# Altium schematic symbol library HW_ADHERENT_SYSCTRL_R1_L2.SCHLIB: 1987 symbols (part 17 of 38)
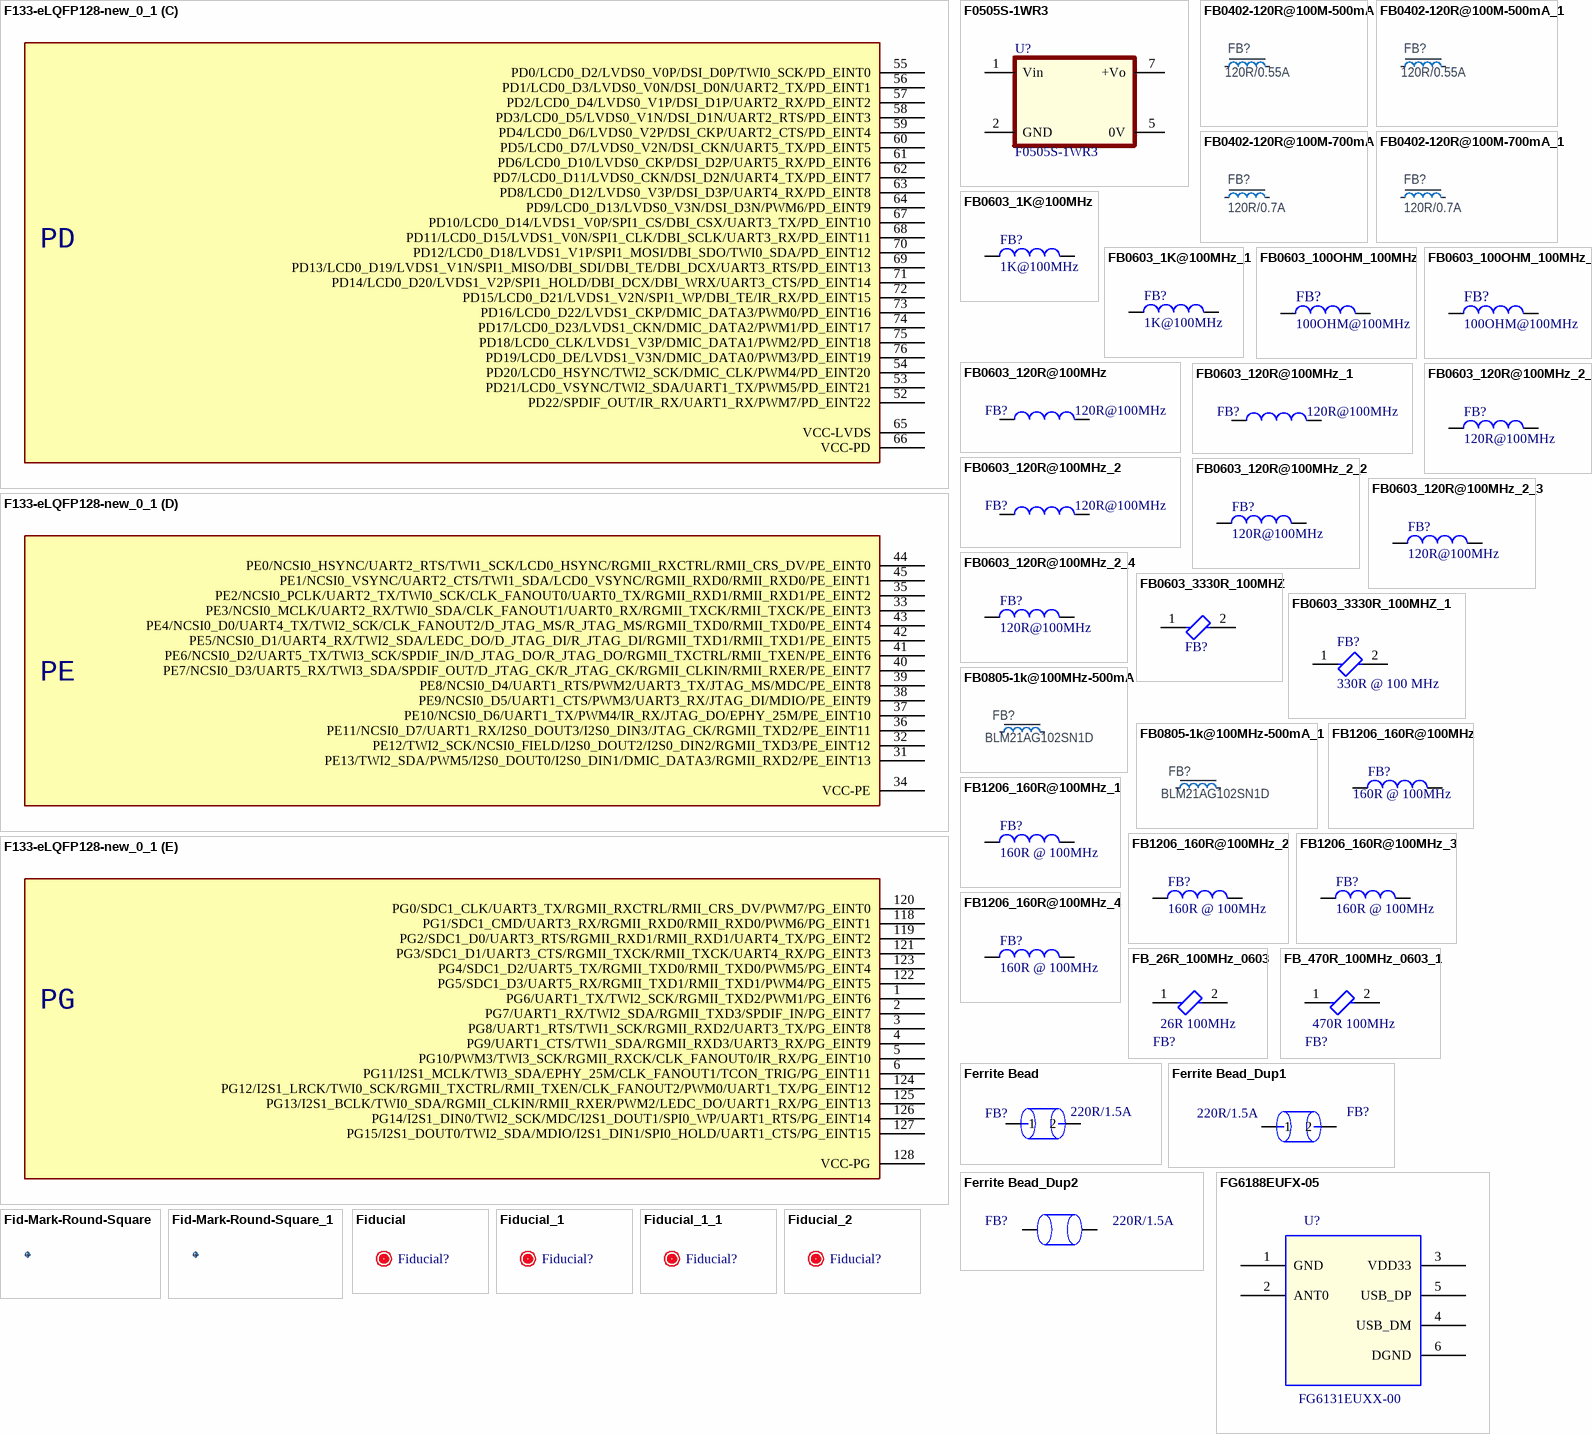
[diagram p78: symbols F133-eLQFP128-new_0_1 to Fiducial_2]

## FB0603_100OHM_100MHz
designator FB?, comment 100OHM@100MHz
100 Ohms @ 100 MHz 1 Power Line Ferrite Bead 0603 (1608 Metric) 2A 40mOhm; Manufacturer: TDK; Manufacturer Part Number: MPZ1608Y101BTA00; Tolerance: 25%; Impedance: 100R; DC Resistance (DCR): 40mR; ComponentLink1URL: https://chn-vm-apps.microchip.com/mchprepo/parts/Datasheets/beads_commercial_power_mpz_en.pdf; ComponentLink1Description: Datasheet; Supplier 1: Digi-Key; Supplier Part Number 1: 445-2984-1-ND; RoHS: Yes; Category: Ferrite Beads and Chips; Stock 1: 551; Pricing 1: 1=0,10000, 10=0,07200, 25=0,06480, 50=0,05840, 100=0,04290, 250=0,03120, 500=0,02860, 1000=0,02470 (USD); Mount: Surface Mount; Case/Package: 0603; Case Code (Metric): 1608; Case Code (Imperial): 0603; Core Material: Ferrite; Packaging: Tape and Reel; Package Quantity: 4000; Max DC Current: 2A; Current Rating: 2A; Series: MPZ; Length: 0.063inch; Width: 0.031inch; Height: 0.037inch; RoHS Compliant: Yes; REACH SVHC: No SVHC; ComponentLink2URL: https://datasheet.ciiva.com/46634/beads-commercial-power-mpz-en-46634677.pdf?src-supplier=Digi-Key; ComponentLink2Description: https://datasheet.ciiva.com/46634/beads-commercial-power-mpz-en-46634677.pdf?src-supplier=Digi-Key; ComponentLink3URL: https://datasheet.ciiva.com/48682/beads-commercial-power-mpz-en-48682501.pdf?src-supplier=Avnet; ComponentLink3Description: https://datasheet.ciiva.com/48682/beads-commercial-power-mpz-en-48682501.pdf?src-supplier=Avnet; ComponentLink4URL: https://datasheet.ciiva.com/46634/beads-commercial-power-mpz-en-46634684.pdf?src-supplier=Digi-Key; ComponentLink4Description: https://datasheet.ciiva.com/46634/beads-commercial-power-mpz-en-46634684.pdf?src-supplier=Digi-Key; ComponentLink5URL: https://datasheet.ciiva.com/46634/beads-commercial-power-mpz-en-46634621.pdf?src-supplier=Digi-Key; ComponentLink5Description: https://datasheet.ciiva.com/46634/beads-commercial-power-mpz-en-46634621.pdf?src-supplier=Digi-Key; Parameter 1: *; LCSC Manufacturer Part Number: MPZ1608Y101BTA00; LCSC Part Number: C501996
footprint FB 0603(1608)
pins: 1, 2
2 alternate drawings of the same symbol

## FB0603_100OHM_100MHz_1
designator FB?, comment 100OHM@100MHz
100 Ohms @ 100 MHz 1 Power Line Ferrite Bead 0603 (1608 Metric) 2A 40mOhm; Manufacturer: TDK; Manufacturer Part Number: MPZ1608Y101BTA00; Tolerance: 25%; Impedance: 100R; DC Resistance (DCR): 40mR; ComponentLink1URL: https://chn-vm-apps.microchip.com/mchprepo/parts/Datasheets/beads_commercial_power_mpz_en.pdf; ComponentLink1Description: Datasheet; Supplier 1: Digi-Key; Supplier Part Number 1: 445-2984-1-ND; RoHS: Yes; Category: Ferrite Beads and Chips; Stock 1: 551; Pricing 1: 1=0,10000, 10=0,07200, 25=0,06480, 50=0,05840, 100=0,04290, 250=0,03120, 500=0,02860, 1000=0,02470 (USD); Mount: Surface Mount; Case/Package: 0603; Case Code (Metric): 1608; Case Code (Imperial): 0603; Core Material: Ferrite; Packaging: Tape and Reel; Package Quantity: 4000; Max DC Current: 2A; Current Rating: 2A; Series: MPZ; Length: 0.063inch; Width: 0.031inch; Height: 0.037inch; RoHS Compliant: Yes; REACH SVHC: No SVHC; ComponentLink2URL: https://datasheet.ciiva.com/46634/beads-commercial-power-mpz-en-46634677.pdf?src-supplier=Digi-Key; ComponentLink2Description: https://datasheet.ciiva.com/46634/beads-commercial-power-mpz-en-46634677.pdf?src-supplier=Digi-Key; ComponentLink3URL: https://datasheet.ciiva.com/48682/beads-commercial-power-mpz-en-48682501.pdf?src-supplier=Avnet; ComponentLink3Description: https://datasheet.ciiva.com/48682/beads-commercial-power-mpz-en-48682501.pdf?src-supplier=Avnet; ComponentLink4URL: https://datasheet.ciiva.com/46634/beads-commercial-power-mpz-en-46634684.pdf?src-supplier=Digi-Key; ComponentLink4Description: https://datasheet.ciiva.com/46634/beads-commercial-power-mpz-en-46634684.pdf?src-supplier=Digi-Key; ComponentLink5URL: https://datasheet.ciiva.com/46634/beads-commercial-power-mpz-en-46634621.pdf?src-supplier=Digi-Key; ComponentLink5Description: https://datasheet.ciiva.com/46634/beads-commercial-power-mpz-en-46634621.pdf?src-supplier=Digi-Key; Parameter 1: *; LCSC Manufacturer Part Number: MPZ1608Y101BTA00; LCSC Part Number: C501996
footprint FB 0603(1608)
pins: 1, 2
2 alternate drawings of the same symbol

## FB0603_120R@100MHz
designator FB?, comment value 120R@100MHz  (hidden comment: FERRITE BEAD 120 OHM 0603 1LN)
120 Ohms @ 100 MHz 1 Power Line Ferrite Bead 0603 (1608 Metric) 3A 30mOhm; Manufacturer Part Number: BLM18KG121TH1D; Order Code: Digi:490-13261-2-ND; LCSC Manufacturer Part Number: BLM18KG121TH1D; LCSC Part Number: C437404
footprint FB0603
pins: 1, 2

## FB0603_120R@100MHz_1
designator FB?, comment value 120R@100MHz  (hidden comment: FERRITE BEAD 120 OHM 0603 1LN)
120 Ohms @ 100 MHz 1 Power Line Ferrite Bead 0603 (1608 Metric) 3A 30mOhm; Manufacturer Part Number: BLM18KG121TH1D; Order Code: Digi:490-13261-2-ND; LCSC Manufacturer Part Number: BLM18KG121TH1D; LCSC Part Number: C437404
footprint FB 0603(1608)
pins: 1, 2

## FB0603_120R@100MHz_2
designator FB?, comment value 120R@100MHz  (hidden comment: FERRITE BEAD 120 OHM 0603 1LN)
120 Ohms @ 100 MHz 1 Power Line Ferrite Bead 0603 (1608 Metric) 3A 30mOhm; Manufacturer Part Number: BLM18KG121TH1D; Order Code: Digi:490-13261-2-ND; LCSC Manufacturer Part Number: BLM18KG121TH1D; LCSC Part Number: C437404
footprint FB 0603(1608)
pins: 1, 2

## FB0603_120R@100MHz_2_1
designator FB?, comment value 120R@100MHz  (hidden comment: FERRITE BEAD 120 OHM 0603 1LN)
120 Ohms @ 100 MHz 1 Power Line Ferrite Bead 0603 (1608 Metric) 3A 30mOhm; Manufacturer Part Number: BLM18KG121TH1D; Order Code: Digi:490-13261-2-ND; LCSC Manufacturer Part Number: BLM18KG121TH1D; LCSC Part Number: C437404
footprint FB0603
pins: 1, 2

## FB0603_120R@100MHz_2_2
designator FB?, comment value 120R@100MHz  (hidden comment: FERRITE BEAD 120 OHM 0603 1LN)
120 Ohms @ 100 MHz 1 Power Line Ferrite Bead 0603 (1608 Metric) 3A 30mOhm; Manufacturer Part Number: BLM18KG121TH1D; Order Code: Digi:490-13261-2-ND; LCSC Manufacturer Part Number: BLM18KG121TH1D; LCSC Part Number: C437404
footprint FB0603
pins: 1, 2

## FB0603_120R@100MHz_2_3
designator FB?, comment value 120R@100MHz  (hidden comment: FERRITE BEAD 120 OHM 0603 1LN)
120 Ohms @ 100 MHz 1 Power Line Ferrite Bead 0603 (1608 Metric) 3A 30mOhm; Manufacturer Part Number: BLM18KG121TH1D; Order Code: Digi:490-13261-2-ND; LCSC Manufacturer Part Number: BLM18KG121TH1D; LCSC Part Number: C437404
footprint FB0603
pins: 1, 2

## FB0603_120R@100MHz_2_4
designator FB?, comment value 120R@100MHz  (hidden comment: FERRITE BEAD 120 OHM 0603 1LN)
120 Ohms @ 100 MHz 1 Power Line Ferrite Bead 0603 (1608 Metric) 3A 30mOhm; Manufacturer Part Number: BLM18KG121TH1D; Order Code: Digi:490-13261-2-ND; LCSC Manufacturer Part Number: BLM18KG121TH1D; LCSC Part Number: C437404
footprint FB0603
pins: 1, 2

## FB0603_3330R_100MHZ
designator FB?  (value not drawn)
330 Ohms @ 100 MHz 1 Power Line Ferrite Bead 0603 (1608 Metric) 1.5A 70mOhm; Manufacturer Part Number: BLM18SG331TN1D; Manufacturer Name: Murata Electronics; Impedance @ Frequency: 330 Ohms @ 100 MHz; Current Rating (Max): 1.5A
footprint FB_0603
pins: 1, 2

## FB0603_3330R_100MHZ_1
designator FB?, comment 330R @ 100 MHz
330 Ohms @ 100 MHz 1 Power Line Ferrite Bead 0603 (1608 Metric) 1.5A 70mOhm; Manufacturer Part Number: BLM18SG331TN1D; Manufacturer Name: Murata Electronics; Impedance @ Frequency: 330 Ohms @ 100 MHz; Current Rating (Max): 1.5A
footprint FB_0603
pins: 1, 2

## FB0805-1k@100MHz-500mA
designator FB?, comment BLM21AG102SN1D
Ferrite Bead, 1k Ohm @ 100MHz, 500mA, 280 mOhm Max; Part Number: FB0805-1k@100MHz-500mA; Manufacturer: Murata; Part number NEMS: 100300399; Component Status: Active; Pad Count: 2; Note: Inductor Type Chip Ferrite Bead; Artikkelnr Noca: N.A.; PartId: 100300399; Component Class: Inductors; Author: rsk; Manufacturer Part Number: BLM21AG102SN1D; ComponentLink1URL: https://www.murata.com/en-us/products/en-us/products/productdata/8796738977822/ENFA0005.pdf; ComponentLink1Description: Datasheet; ComponentLink2URL: https://www.digikey.no/product-detail/en/murata-electronics/BLM21AG102SN1D/490-1041-1-ND/574404; ComponentLink2Description: Supplier link; HelpURL: https://www.murata.com/en-us/products/productdetail?partno=BLM21AG102SN1%23; Footprint Doc: 0805; LatestRevisionDate: 2024-05-09; Published: 2020-05-13; Value: BLM21AG102SN1D; Supplier 1: Digi-Key; Supplier Part Number 1: 490-1041-1-ND; Supplier 2: Mouser; Supplier Part Number 2: 81-BLM21AG102SN1; Part number IPS: N.A.; Part number Norautron: N.A.
footprint INDC2012X11L
pins: 1, 2

## FB0805-1k@100MHz-500mA_1
designator FB?, comment BLM21AG102SN1D
Ferrite Bead, 1k Ohm @ 100MHz, 500mA, 280 mOhm Max; Part Number: FB0805-1k@100MHz-500mA; Manufacturer: Murata; Part number NEMS: 100300399; Component Status: Active; Pad Count: 2; Note: Inductor Type Chip Ferrite Bead; Artikkelnr Noca: N.A.; PartId: 100300399; Component Class: Inductors; Author: rsk; Manufacturer Part Number: BLM21AG102SN1D; ComponentLink1URL: https://www.murata.com/en-us/products/en-us/products/productdata/8796738977822/ENFA0005.pdf; ComponentLink1Description: Datasheet; ComponentLink2URL: https://www.digikey.no/product-detail/en/murata-electronics/BLM21AG102SN1D/490-1041-1-ND/574404; ComponentLink2Description: Supplier link; HelpURL: https://www.murata.com/en-us/products/productdetail?partno=BLM21AG102SN1%23; Footprint Doc: 0805; LatestRevisionDate: 2024-05-09; Published: 2020-05-13; Value: BLM21AG102SN1D; Supplier 1: Digi-Key; Supplier Part Number 1: 490-1041-1-ND; Supplier 2: Mouser; Supplier Part Number 2: 81-BLM21AG102SN1; Part number IPS: N.A.; Part number Norautron: N.A.
footprint INDC2012X11L
pins: 1, 2

## FB1206_160R@100MHz
designator FB?, comment 160R @ 100MHz
FERRITE BEAD 160 OHM 1206 1LN; Manufacturer Part Number: HI1206T161R-10; Order Code: DIGI : 240-2411-1-ND; Value: 160R @ 100MHz
footprint FB1210
pins: 1, 2

## FB1206_160R@100MHz_1
designator FB?, comment 160R @ 100MHz
FERRITE BEAD 160 OHM 1206 1LN; P/N: HI1206T161R-10; Order Code: Win Source : 103255-HI1206T161R-10; Value: 160R @ 100MHz
footprint FB1210 (0.126" L x 0.098" W (3.20mm x 2.50mm))
footprint BEADC3216X180N
pins: 1, 2

## FB1206_160R@100MHz_2
designator FB?, comment 160R @ 100MHz
FERRITE BEAD 160 OHM 1206 1LN; P/N: HI1206T161R-10; Order Code: Win Source : 103255-HI1206T161R-10; Value: 160R @ 100MHz
footprint FB1210 (0.126" L x 0.098" W (3.20mm x 2.50mm))
footprint BEADC3216X180N
pins: 1, 2

## FB1206_160R@100MHz_3
designator FB?, comment 160R @ 100MHz
FERRITE BEAD 160 OHM 1206 1LN; P/N: HI1206T161R-10; Order Code: Win Source : 103255-HI1206T161R-10; Value: 160R @ 100MHz
footprint FB1210 (0.126" L x 0.098" W (3.20mm x 2.50mm))
footprint BEADC3216X180N
pins: 1, 2

## FB1206_160R@100MHz_4
designator FB?, comment 160R @ 100MHz
FERRITE BEAD 160 OHM 1206 1LN; P/N: HI1206T161R-10; Order Code: Win Source : 103255-HI1206T161R-10; Value: 160R @ 100MHz
footprint FB1210 (0.126" L x 0.098" W (3.20mm x 2.50mm))
footprint BEADC3216X180N
pins: 1, 2

## FB_26R_100MHz_0603
designator FB?, comment value 26R 100MHz  (hidden comment: FERRITE BEAD 26 OHM 0603 1LN)
26 Ohms @ 100 MHz 1 Power Line Ferrite Bead 0603 (1608 Metric) 6A 7mOhm; Manufacturer Part Number: BLM18KG260TN1D; Order Code: DIGI: 490-5252-2-ND
footprint Murata_BLM18-0_15-t0_6-d3_3_IPC_A
footprint Murata_BLM18-0_15-t0_6-d3_3_IPC_B
footprint Murata_BLM18-0_15-t0_6-d3_3_IPC_C
pins: 1, 2

## FB_470R_100MHz_0603_1
designator FB?, comment value 470R 100MHz  (hidden comment: FERRITE BEAD 470 OHM 0603 1LN)
470 Ohms @ 100 MHz 1 Power Line Ferrite Bead 0603 (1608 Metric) 1.5A 130mOhm; Manufacturer Part Number: BLM18KG471SH1D; Order Code: DIGI: 490-5252-2-ND
footprint Murata_BLM18-0_15-t0_6-d3_3_IPC_A
footprint Murata_BLM18-0_15-t0_6-d3_3_IPC_B
footprint Murata_BLM18-0_15-t0_6-d3_3_IPC_C
pins: 1, 2

## Ferrite Bead
designator FB?, comment 220R/1.5A
Ferrite Bead,220R@100Mhz,1.5A,+/-25%,SMD,0603,Fenghua; Manufacturer P/N: CBM160808U221T; Myir P/N: 20601.80007; Reserve Value: 220R; PCB Footprint: FB0603; Part Type: Ferrite Bead; Manufacturer: Fenghua; Datasheet: CBM160808U221T.pdf
footprint FB0603
pins: 1, 2

## Ferrite Bead_Dup1
designator FB?, comment 220R/1.5A
Ferrite Bead,220R@100Mhz,1.5A,+/-25%,SMD,0603,Fenghua; Manufacturer P/N: CBM160808U221T; Myir P/N: 20601.80007; Reserve Value: 220R; PCB Footprint: FB0603; Part Type: Ferrite Bead; Manufacturer: Fenghua; Datasheet: CBM160808U221T.pdf
footprint FB0603
pins: 1, 2

## Ferrite Bead_Dup2
designator FB?, comment 220R/1.5A
Ferrite Bead,220R@100Mhz,1.5A,+/-25%,SMD,0603,Fenghua; Manufacturer P/N: CBM160808U221T; Reserve Value: 220R; Myir P/N: 20601.80007; PCB Footprint: FB0603; Datasheet: CBM160808U221T.pdf; Manufacturer: Fenghua; Part Type: Ferrite Bead
footprint FB0603
pins: 1, 2

## FG6188EUFX-05
designator U?, comment FG6131EUXX-00
USB WIFI module,Size 12.2*13*0.6mm,SMD,0¡ãC to 70¡ãC,Fn-link; PCB Footprint: modile-FG6188EUFX-05; Myir P/N: 20201.00010; Reserve Value: FG6188EUFX-05; Part Type: WIFI Module; Manufacturer: Fn-link; Manufacturer P/N: FG6131EUXX-00; Datasheet: FG6131EUXX-00.pdf
footprint modile-FG6188EUFX-05
pins: 1 GND (power), 2 ANT0, 3 VDD33 (power), 4 USB_DM, 5 USB_DP, 6 DGND (power)

## Fid-Mark-Round-Square
designator Fid?, comment Fiducial mark  (value not drawn)
Part Number: Fid-Mark-Round-Square; Manufacturer: N.A.; Part number NEMS: 100500075; Value: N.A.; Pad Count: 1; Component Status: Active; System: Connector; Manufacturer Part Number: N.A.; LatestRevisionDate: 2017-01-30; Published: 2009-12-12; Note: N.A.; Artikkelnr Noca: N.A.; Footprint Doc: Fiducial; Part number IPS: N.A.; ComponentLink1URL: N.A.; ComponentLink1Description: Datasheet; ComponentLink2URL: N.A.; ComponentLink2Description: Supplier link; HelpURL: N.A.; Supplier 1: N.A.; Supplier Part Number 1: N.A.; Supplier 2: N.A.; Supplier Part Number 2: N.A.; Author: rsk; Component Class: Connectors; PartId: 100500075; Part number Norautron: N.A.
footprint Fiducial_Round-Square

## Fid-Mark-Round-Square_1
designator Fid?, comment Fiducial mark  (value not drawn)
Part Number: Fid-Mark-Round-Square; Manufacturer: N.A.; Part number NEMS: 100500075; Value: N.A.; Pad Count: 1; Component Status: Active; System: Connector; Manufacturer Part Number: N.A.; LatestRevisionDate: 2017-01-30; Published: 2009-12-12; Note: N.A.; Artikkelnr Noca: N.A.; Footprint Doc: Fiducial; Part number IPS: N.A.; ComponentLink1URL: N.A.; ComponentLink1Description: Datasheet; ComponentLink2URL: N.A.; ComponentLink2Description: Supplier link; HelpURL: N.A.; Supplier 1: N.A.; Supplier Part Number 1: N.A.; Supplier 2: N.A.; Supplier Part Number 2: N.A.; Author: rsk; Component Class: Connectors; PartId: 100500075; Part number Norautron: N.A.
footprint Fiducial_Round-Square

## Fiducial
designator Fiducial?  (value not drawn)
footprint FIDUCIAL_40_80

## Fiducial_1
designator Fiducial?  (value not drawn)
footprint FIDUCIAL_40_80

## Fiducial_1_1
designator Fiducial?  (value not drawn)
footprint FIDUCIAL_40_80

## Fiducial_2
designator Fiducial?  (value not drawn)
footprint FIDUCIAL_40_80

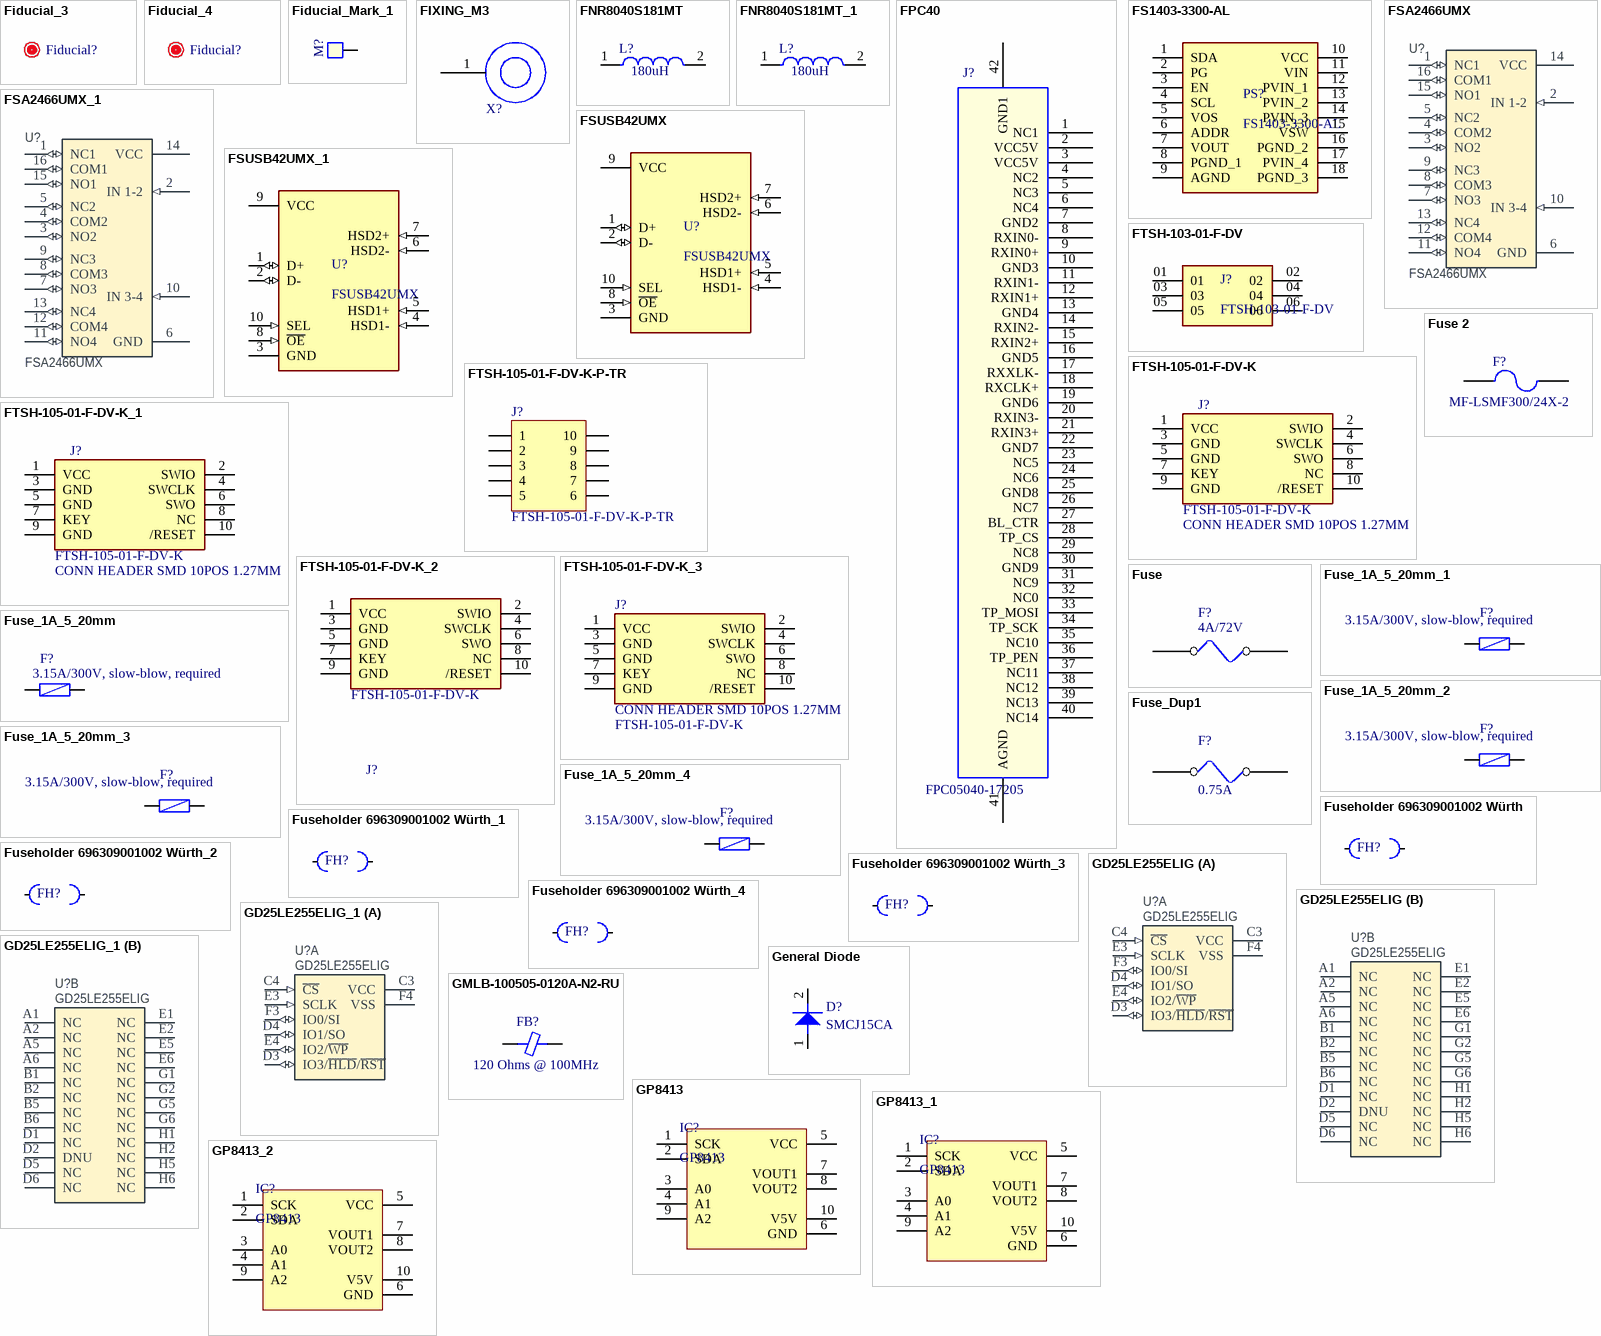
[diagram p29: symbols Fiducial_3 to GP8413_2]

## Fiducial_3
designator Fiducial?  (value not drawn)
footprint FIDUCIAL_40_80

## Fiducial_4
designator Fiducial?  (value not drawn)
footprint FIDUCIAL_40_80

## Fiducial_Mark_1
designator M?, comment Mark Piont  (value not drawn)
PCB Footprint: id-board; VAL: NOT POPULATED; REF: NA; DESIG: testing PAD; FAB: NA
footprint ID-BOARD - duplicate
pins: 1

## FIXING_M3
designator X?, comment M3  (value not drawn)  (no BOM)
FIXING HOLE M3; Value: M3
footprint FIXING_M3 (FIXING HOLE M3)
pins: 1

## FNR8040S181MT
designator L?, comment value 180uH  (hidden comment: 830mA 180uH ±20% SMD,8x8mm Power Inductors ROHS)
Manufacturer Part Number: FNR8040S181MT; Order Code: LCSC: C168147; LCSC Manufacturer Part Number: FNR8040S181MT; LCSC Part Number: C168147
footprint IND-SMD_L8.0-W8.0
pins: 1, 2

## FNR8040S181MT_1
designator L?, comment value 180uH  (hidden comment: 830mA 180uH ±20% SMD,8x8mm Power Inductors ROHS)
Manufacturer Part Number: FNR8040S181MT; Order Code: LCSC: C168147; LCSC Manufacturer Part Number: FNR8040S181MT; LCSC Part Number: C168147
footprint IND-SMD_L8.0-W8.0
pins: 1, 2

## FPC40
designator J?, comment FPC05040-17205
FPC Connector,40pin,0.5mm pitch,Dual-sided Contact Models, Operating temperature range from¨C45~85¡æ,Atom; PCB Footprint: FPC40-0_5-h; Myir P/N: 21106.00016; Part Type: FPC Connector; Manufacturer: Atom; Manufacturer P/N: FPC05040-17205; Reserve Value: FPC05040-17205; Datasheet: FPC_Atom.pdf
footprint FPC40-0_5-h
pins: 1 NC1, 2 VCC5V (power), 3 VCC5V (power), 4 NC2, 5 NC3, 6 NC4, 7 GND2 (power), 8 RXIN0-, 9 RXIN0+, 10 GND3 (power), 11 RXIN1-, 12 RXIN1+, 13 GND4 (power), 14 RXIN2-, 15 RXIN2+, 16 GND5 (power), 17 RXXLK-, 18 RXCLK+, 19 GND6 (power), 20 RXIN3-, 21 RXIN3+, 22 GND7 (power), 23 NC5, 24 NC6, 25 GND8 (power), 26 NC7, 27 BL_CTR, 28 TP_CS, 29 NC8, 30 GND9 (power), 31 NC9, 32 NC0, 33 TP_MOSI, 34 TP_SCK, 35 NC10, 36 TP_PEN, 37 NC11, 38 NC12, 39 NC13, 40 NC14, 41 AGND (power), 42 GND1 (power)

## FS1403-3300-AL
designator PS?
Module DC-DC 1-OUT 3.3V 3A 17-Pin uPOL T/R; Manufacturer: TDK; Min Input Voltage: 8V; Max Input Voltage: 16V; Number of Outputs: 1; Supplier 1: Digikey; Manufacturer Part Number: FS1403-3300-AL; RoHS: Yes; Category: Board Mount Modules; Stock 1: 28000; Pricing 1: 4000=3.28344 (USD); Mount: Surface Mount; Case/Package: SMD/SMT; Min Operating Temperature: -40°C; Max Operating Temperature: 125°C; Series: µPOL™ FS1403 (15W); Voltage - Output 1: 3.3V; Max Output Current: 3A; Supplier Part Number 1: 445-FS1403-3300-ALTR-ND
footprint FS140X
pins: 1 SDA, 2 PG, 3 EN, 4 SCL, 5 VOS, 6 ADDR, 7 VOUT, 8 PGND_1, 9 AGND, 10 VCC, 11 VIN, 12 PVIN_1, 13 PVIN_2, 14 PVIN_3, 15 VSW, 16 PGND_2, 17 PVIN_4, 18 PGND_3

## FSA2466UMX
designator U?
Data / Audio Low-Voltage Dual DPDT Analog Switch; Manufacturer: ON Semiconductor; Part number IPS: 00000009986; Part number Norautron: 26500608; Part number NEMS: 101900422; Note: N.A.; Artikkelnr Noca: 15070069; Pad Count: 16; Component Status: Active; Part Number: FSA2466UMX; Manufacturer Part Number: FSA2466UMX; ComponentLink1URL: N.A.; ComponentLink1Description: Datasheet; ComponentLink2URL: N.A.; ComponentLink2Description: Supplier link; HelpURL: https://www.onsemi.com/pub/Collateral/FSA2466-D.PDF; Footprint Doc: UFQFN-16; LatestRevisionDate: 2019-05-15; Published: 2016-05-18; Value: FSA2466UMX; Supplier 1: Digi-Key; Supplier Part Number 1: FSA2466UMXCT-ND; Supplier 2: Mouser; Supplier Part Number 2: 512-FSA2466UMX; Component Class: Misc_ICs; PartId: 101900422; Author: rsk
footprint XQFN40P180X260X50-16N
pins: 1 NC1 (io), 2 IN 1-2 (in), 3 NO2 (io), 4 COM2 (io), 5 NC2 (io), 6 GND (power), 7 NO3 (io), 8 COM3 (io), 9 NC3 (io), 10 IN 3-4 (in), 11 NO4 (io), 12 COM4 (io), 13 NC4 (io), 14 VCC (power), 15 NO1 (io), 16 COM1 (io)
1 alternate drawing of the same symbol

## FSA2466UMX_1
designator U?, comment FSA2466UMX
Data / Audio Low-Voltage Dual DPDT Analog Switch; Manufacturer: ON Semiconductor; Part number IPS: 00000009986; Part number Norautron: 26500608; Part number NEMS: 101900422; Note: N.A.; Artikkelnr Noca: 15070069; Pad Count: 16; Component Status: Active; Part Number: FSA2466UMX; Manufacturer Part Number: FSA2466UMX; ComponentLink1URL: N.A.; ComponentLink1Description: Datasheet; ComponentLink2URL: N.A.; ComponentLink2Description: Supplier link; HelpURL: https://www.onsemi.com/pub/Collateral/FSA2466-D.PDF; Footprint Doc: UFQFN-16; LatestRevisionDate: 2019-05-15; Published: 2016-05-18; Value: FSA2466UMX; Supplier 1: Digi-Key; Supplier Part Number 1: FSA2466UMXCT-ND; Supplier 2: Mouser; Supplier Part Number 2: 512-FSA2466UMX; Component Class: Misc_ICs; PartId: 101900422; Author: rsk
footprint XQFN40P180X260X50-16N
pins: 1 NC1 (io), 2 IN 1-2 (in), 3 NO2 (io), 4 COM2 (io), 5 NC2 (io), 6 GND (power), 7 NO3 (io), 8 COM3 (io), 9 NC3 (io), 10 IN 3-4 (in), 11 NO4 (io), 12 COM4 (io), 13 NC4 (io), 14 VCC (power), 15 NO1 (io), 16 COM1 (io)
1 alternate drawing of the same symbol

## FSUSB42UMX
designator U?
USB Switch IC 1 Channel 10-UMLP (1.8x1.4); MF: ON Semiconductor; SnapEDA_Link: https://www.snapeda.com/parts/FSUSB42UMX/Onsemi/view-part/?ref=snap; Package: UQFN-10 ON Semiconductor; Value: *; MP: FSUSB42UMX; Check_prices: https://www.snapeda.com/parts/FSUSB42UMX/Onsemi/view-part/?ref=eda
footprint IC_FSUSB42UMX
pins: 1 D+ (io), 2 D- (io), 3 GND (power), 4 HSD1- (in), 5 HSD1+ (in), 6 HSD2- (in), 7 HSD2+ (in), 8 ~{OE} (in), 9 VCC (power), 10 SEL (in)

## FSUSB42UMX_1
designator U?, comment FSUSB42UMX
USB Switch IC 1 Channel 10-UMLP (1.8x1.4); MF: ON Semiconductor; SnapEDA_Link: https://www.snapeda.com/parts/FSUSB42UMX/Onsemi/view-part/?ref=snap; Package: UQFN-10 ON Semiconductor; Value: *; MP: FSUSB42UMX; Check_prices: https://www.snapeda.com/parts/FSUSB42UMX/Onsemi/view-part/?ref=eda
footprint IC_FSUSB42UMX
pins: 1 D+ (io), 2 D- (io), 3 GND (power), 4 HSD1- (in), 5 HSD1+ (in), 6 HSD2- (in), 7 HSD2+ (in), 8 ~{OE} (in), 9 VCC (power), 10 SEL (in)

## FTSH-103-01-F-DV
designator J?
MF: Samtec; Price: None; Availability: Unavailable; Value: *; MP: FTSH-103-01-F-DV; Package: None
footprint SAMTEC_FTSH-103-01-F-DV
pins: 01, 02, 03, 04, 05, 06

## FTSH-105-01-F-DV-K
designator J?, comment CONN HEADER SMD 10POS 1.27MM  Manufacturer Part Number: FTSH-105-01-F-DV-K
Connector Header Surface Mount 10 position 0.050" (1.27mm); Order Code: DIGI: SAM8796-ND
footprint Samtec_0_MFG
pins: 1 VCC, 2 SWIO, 3 GND, 4 SWCLK, 5 GND, 6 SWO, 7 KEY, 8 NC, 9 GND, 10 /RESET

## FTSH-105-01-F-DV-K-P-TR
designator J?
Connector Header Surface Mount 10 position 0.050" (1.27mm); Manufacturer Name: Samtec Inc.; Pitch - Mating: 0.050(1.27mm); Number of Positions: 10; Manufacturer Part Number: FTSH-105-01-F-DV-K-P-TR; Number of Rows: 2
footprint Samtec_0_MFG
pins: 1, 2, 3, 4, 5, 6, 7, 8, 9, 10

## FTSH-105-01-F-DV-K_1
designator J?, comment CONN HEADER SMD 10POS 1.27MM  Manufacturer Part Number: FTSH-105-01-F-DV-K
Connector Header Surface Mount 10 position 0.050" (1.27mm); Order Code: DIGI: SAM8796-ND
footprint Samtec_0_MFG
pins: 1 VCC, 2 SWIO, 3 GND, 4 SWCLK, 5 GND, 6 SWO, 7 KEY, 8 NC, 9 GND, 10 /RESET

## FTSH-105-01-F-DV-K_2
designator J?, comment Manufacturer Part Number: FTSH-105-01-F-DV-K  (hidden comment: CONN HEADER SMD 10POS 1.27MM)
Connector Header Surface Mount 10 position 0.050" (1.27mm); Order Code: DIGI: SAM8796-ND
footprint Samtec_0_MFG
pins: 1 VCC, 2 SWIO, 3 GND, 4 SWCLK, 5 GND, 6 SWO, 7 KEY, 8 NC, 9 GND, 10 /RESET

## FTSH-105-01-F-DV-K_3
designator J?, comment CONN HEADER SMD 10POS 1.27MM  Manufacturer Part Number: FTSH-105-01-F-DV-K
Connector Header Surface Mount 10 position 0.050" (1.27mm); Order Code: DIGI: SAM8796-ND
footprint Samtec_0_MFG
pins: 1 VCC, 2 SWIO, 3 GND, 4 SWCLK, 5 GND, 6 SWO, 7 KEY, 8 NC, 9 GND, 10 /RESET

## Fuse
designator F?, comment 4A/72V
Fuse,Resettable 4A 75V,SMD 1206,TLC; Manufacturer P/N: F12F4; Myir P/N: 20801.00014; PCB Footprint: F1206; Datasheet: F12F Series.pdf; Reserve Value: 4A; Manufacturer: TLC; Part Type: Resettable Fuse
footprint F1206
pins: 1, 2

## Fuse 2
designator F?, comment MF-LSMF300/24X-2
PTC RESET FUSE 24V 3A 2920; Manufacturer: Bourns Inc.; Manufacturer Part Number: MF-LSMF300/24X-2; Value: MF-LSMF300/24X-2; Supplier Part Number: MF-LSMF300/24X-2CT-ND
simulation model FUSE (Spice Subcircuit)
footprint FUSE_MF-LSMF300/24X-2 (MF-LSMF300/24X-2)
pins: 1, 2

## Fuse_1A_5_20mm
designator F?, comment value 3.15A/300V, slow-blow, required  (hidden comment: 5TT 3-R)  (mechanical)
FUSE GLASS 3A 250VAC 5X20MM; Manufacturer: Bel Fuse Inc.; Manufacturer Part Number: 5TT 3-R; Supplier Part Number: 507-1297-ND
footprint Dummy (Footprint not found)
pins: 1, 2

## Fuse_1A_5_20mm_1
designator F?, comment value 3.15A/300V, slow-blow, required  (hidden comment: 5TT 3-R)  (mechanical)
FUSE GLASS 3A 250VAC 5X20MM; Manufacturer: Bel Fuse Inc.; Manufacturer Part Number: 5TT 3-R; Supplier Part Number: 507-1297-ND
footprint Dummy (Footprint not found)
pins: 1, 2

## Fuse_1A_5_20mm_2
designator F?, comment value 3.15A/300V, slow-blow, required  (hidden comment: 5TT 3-R)  (mechanical)
FUSE GLASS 3A 250VAC 5X20MM; Manufacturer: Bel Fuse Inc.; Manufacturer Part Number: 5TT 3-R; Supplier Part Number: 507-1297-ND
footprint Dummy (Footprint not found)
pins: 1, 2

## Fuse_1A_5_20mm_3
designator F?, comment value 3.15A/300V, slow-blow, required  (hidden comment: 5TT 3-R)  (mechanical)
FUSE GLASS 3A 250VAC 5X20MM; Manufacturer: Bel Fuse Inc.; Manufacturer Part Number: 5TT 3-R; Supplier Part Number: 507-1297-ND
footprint Dummy (Footprint not found)
pins: 1, 2

## Fuse_1A_5_20mm_4
designator F?, comment value 3.15A/300V, slow-blow, required  (hidden comment: 5TT 3-R)  (mechanical)
FUSE GLASS 3A 250VAC 5X20MM; Manufacturer: Bel Fuse Inc.; Manufacturer Part Number: 5TT 3-R; Supplier Part Number: 507-1297-ND
footprint Dummy (Footprint not found)
pins: 1, 2

## Fuse_Dup1
designator F?, comment 0.75A
Fuse,Resettable,0.75A,6V,SMD,1206,Bourns; Manufacturer P/N: MF-NSMF075-2; Myir P/N: 20801.00003; PCB Footprint: F1206; Part Type: Resettable Fuse; Manufacturer: Bourns; Reserve Value: 0.75A; Datasheet: mfnsmf.pdf
footprint F1206
pins: 1, 2

## Fuseholder 696309001002 Würth
designator FH?, comment 696309001002  (value not drawn)
Fuseholder 5x20mm; Manufacturer: Würth Elektronik; Value: Fuse Holder; Manufacturer Part Number: 696309001002; Supplier Part Number: 732-11383-ND
footprint THD Ø13.20X33.0 (696309001002)
pins: 1, 2

## Fuseholder 696309001002 Würth_1
designator FH?, comment 696309001002  (value not drawn)
Fuseholder 5x20mm; Manufacturer: Würth Elektronik; Value: Fuse Holder; Manufacturer Part Number: 696309001002; Supplier Part Number: 732-11383-ND
footprint THD Ø13.20X33.0 (696309001002)
pins: 1, 2

## Fuseholder 696309001002 Würth_2
designator FH?, comment 696309001002  (value not drawn)
Fuseholder 5x20mm; Manufacturer: Würth Elektronik; Value: Fuse Holder; Manufacturer Part Number: 696309001002; Supplier Part Number: 732-11383-ND
footprint THD Ø13.20X33.0 (696309001002)
pins: 1, 2

## Fuseholder 696309001002 Würth_3
designator FH?, comment 696309001002  (value not drawn)
Fuseholder 5x20mm; Manufacturer: Würth Elektronik; Value: Fuse Holder; Manufacturer Part Number: 696309001002; Supplier Part Number: 732-11383-ND
footprint THD Ø13.20X33.0 (696309001002)
pins: 1, 2

## Fuseholder 696309001002 Würth_4
designator FH?, comment 696309001002  (value not drawn)
Fuseholder 5x20mm; Manufacturer: Würth Elektronik; Value: Fuse Holder; Manufacturer Part Number: 696309001002; Supplier Part Number: 732-11383-ND
footprint THD Ø13.20X33.0 (696309001002)
pins: 1, 2

## GD25LE255ELIG
designator U?
Quad Serial Flash, 256Mbit, 133MHz, 1.65V - 2.0V; Manufacturer: GigaDevice; Part number NEMS: 101900759; Note: N.A.; Pad Count: 32; Component Status: Active; Part Number: GD25LE255ELIG; Manufacturer Part Number: GD25LE255ELIG; Footprint Doc: 32-WLSCP; LatestRevisionDate: 2023-01-11; Published: 2023-01-11; Value: GD25LE255ELIG; Artikkelnr Noca: N.A.; Part number IPS: N.A.; ComponentLink1URL: https://www.gigadevice.com/datasheet/gd25le255e/; ComponentLink1Description: Datasheet; ComponentLink2URL: https://no.mouser.com/ProductDetail/GigaDevice/GD25LE255ELIGR?qs=81r%252BiQLm7BRinJH1OgrMdw%3D%3D; ComponentLink2Description: Supplier link; HelpURL: https://www.gigadevice.com/flash-memory/gd25le255e/; Supplier 1: Mouser; Supplier Part Number 1: 363-GD25LE255ELIGR; Supplier 2: N.A.; Supplier Part Number 2: N.A.; Author: rubr; Component Class: Misc_ICs; Part number Norautron: N.A.; PartId: 101900759
footprint BGA32C50P6X8_350X400X50
part A pins: C3 VCC (power), C4 ~{CS} (in), D3 IO3/~{HLD}/~{RST} (io), D4 IO1/SO (io), E3 SCLK (in), E4 IO2/~{WP} (io), F3 IO0/SI (io), F4 VSS (power)
part B pins: A1 NC, A2 NC, A5 NC, A6 NC, B1 NC, B2 NC, B5 NC, B6 NC, D1 NC, D2 DNU, D5 NC, D6 NC, E1 NC, E2 NC, E5 NC, E6 NC, G1 NC, G2 NC, G5 NC, G6 NC, H1 NC, H2 NC, H5 NC, H6 NC, x NC hidden

## GD25LE255ELIG_1
designator U?, comment GD25LE255ELIG
Quad Serial Flash, 256Mbit, 133MHz, 1.65V - 2.0V; Manufacturer: GigaDevice; Part number NEMS: 101900759; Note: N.A.; Pad Count: 32; Component Status: Active; Part Number: GD25LE255ELIG; Manufacturer Part Number: GD25LE255ELIG; Footprint Doc: 32-WLSCP; LatestRevisionDate: 2023-01-11; Published: 2023-01-11; Value: GD25LE255ELIG; Artikkelnr Noca: N.A.; Part number IPS: N.A.; ComponentLink1URL: https://www.gigadevice.com/datasheet/gd25le255e/; ComponentLink1Description: Datasheet; ComponentLink2URL: https://no.mouser.com/ProductDetail/GigaDevice/GD25LE255ELIGR?qs=81r%252BiQLm7BRinJH1OgrMdw%3D%3D; ComponentLink2Description: Supplier link; HelpURL: https://www.gigadevice.com/flash-memory/gd25le255e/; Supplier 1: Mouser; Supplier Part Number 1: 363-GD25LE255ELIGR; Supplier 2: N.A.; Supplier Part Number 2: N.A.; Author: rubr; Component Class: Misc_ICs; Part number Norautron: N.A.; PartId: 101900759
footprint BGA32C50P6X8_350X400X50
part A pins: C3 VCC (power), C4 ~{CS} (in), D3 IO3/~{HLD}/~{RST} (io), D4 IO1/SO (io), E3 SCLK (in), E4 IO2/~{WP} (io), F3 IO0/SI (io), F4 VSS (power)
part B pins: A1 NC, A2 NC, A5 NC, A6 NC, B1 NC, B2 NC, B5 NC, B6 NC, D1 NC, D2 DNU, D5 NC, D6 NC, E1 NC, E2 NC, E5 NC, E6 NC, G1 NC, G2 NC, G5 NC, G6 NC, H1 NC, H2 NC, H5 NC, H6 NC, x NC hidden

## General Diode
designator D?, comment SMCJ15CA
Diode,TVS Single Uni-dir 15V 1500W,DO-214AB(SMC),UN; Myir P/N: 20701.00051; Datasheet: UN-SMCJ.pdf; Reserve Value: SMCJ15CA; Manufacturer P/N: SMCJ15CA; Manufacturer: UN; Part Type: Diode; PCB Footprint: DO-214AB
footprint DO-214AB
pins: 1, 2

## GMLB-100505-0120A-N2-RU
designator FB?, comment 120 Ohms @ 100MHz
FERRITE BEAD 120 OHM 0402 1LN; Part Number: GMLB-100505-0120A-N2-RU; Manufacturer: Mag Layers; Current Rating (Max): 500mA; DC Resistance (DCR) (Max): 250mOhm; Filter Type: Signal Line; Number of Lines: 1; ComponentLink2Description: DigiKey Link; ComponentLink2URL: http://digikey.com/product-detail/en/mag-layers/GMLB-100505-0120A-N2-RU/2669-GMLB-100505-0120A-N2-RU-ND/12417641; Height (Max): 0.024" (0.60mm); Impedance @ Frequency: 120 Ohms @ 100MHz; LastUpdated: 3.06.2024 19:51:01; Lifecycle Status: Active; Minimum Order: 0; Mounting Type: Surface Mount; Package / Case: 0402 (1005 Metric); PartId: 2087; Price: 0; Series: GMLB-100505-A; Size / Dimension: 0.039" L x 0.020" W (1.00mm x 0.50mm); Supplier 1: DigiKey; Supplier Part Number 1: 2669-GMLB-100505-0120A-N2-RU-ND; Value: 120 Ohms @ 100MHz
footprint FER 0402_1005
pins: 1, 2

## GP8413
designator IC?
2-Channel 15-bit I2C to 0-5V/10V DAC Module
footprint GP8413
pins: 1 SCK, 2 SDA, 3 A0, 4 A1, 5 VCC, 6 GND, 7 VOUT1, 8 VOUT2, 9 A2, 10 V5V

## GP8413_1
designator IC?, comment GP8413
2-Channel 15-bit I2C to 0-5V/10V DAC Module
footprint GP8413
pins: 1 SCK, 2 SDA, 3 A0, 4 A1, 5 VCC, 6 GND, 7 VOUT1, 8 VOUT2, 9 A2, 10 V5V

## GP8413_2
designator IC?, comment GP8413
2-Channel 15-bit I2C to 0-5V/10V DAC Module
footprint GP8413
pins: 1 SCK, 2 SDA, 3 A0, 4 A1, 5 VCC, 6 GND, 7 VOUT1, 8 VOUT2, 9 A2, 10 V5V

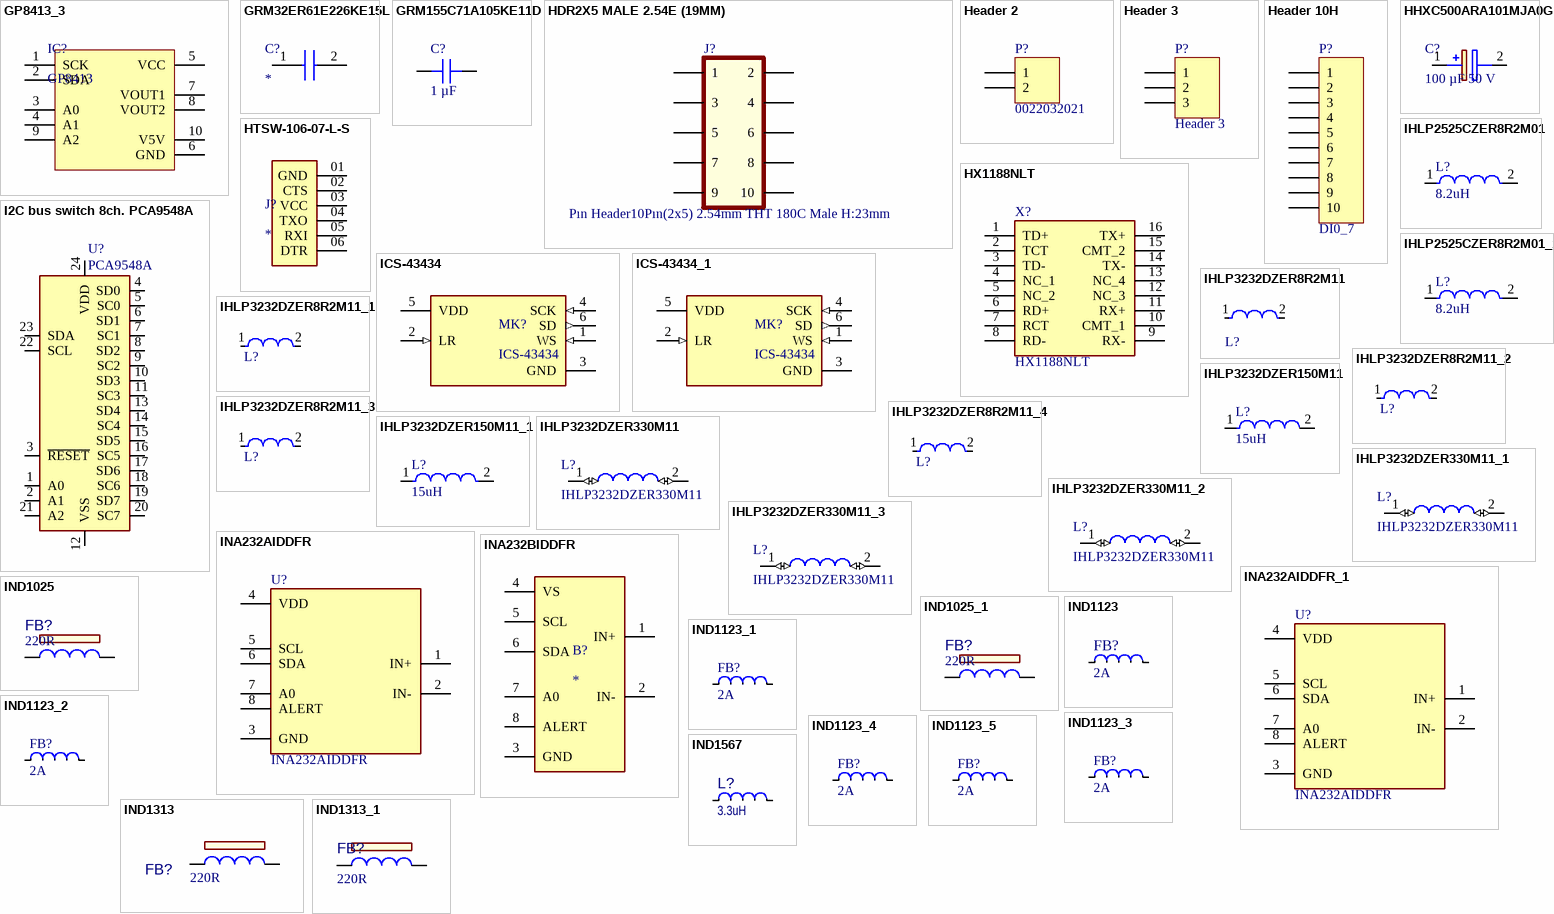
[diagram p30: symbols GP8413_3 to IND1567]

## GP8413_3
designator IC?, comment GP8413
2-Channel 15-bit I2C to 0-5V/10V DAC Module
footprint GP8413
pins: 1 SCK, 2 SDA, 3 A0, 4 A1, 5 VCC, 6 GND, 7 VOUT1, 8 VOUT2, 9 A2, 10 V5V

## GRM32ER61E226KE15L
designator C?
Capacitor; Manufacturer_Name: Murata Electronics; Manufacturer_Part_Number: GRM32ER61E226KE15L; Datasheet Link: http://psearch.en.murata.com/capacitor/product/GRM32ER71E226KE15%23.pdf; Height: 2.7mm; Mouser Part Number: 81-GRM32ER61E226KE15; Mouser Price/Stock: https://www.mouser.co.uk/ProductDetail/Murata-Electronics/GRM32ER61E226KE15L?qs=CHiu0TXTCq%252Bo%252Bcqcz70txw%3D%3D; Arrow Part Number: GRM32ER61E226KE15L; Arrow Price/Stock: https://www.arrow.com/en/products/grm32er61e226ke15l/murata-manufacturing?region=nac
footprint CAPC3225X270N
pins: 1, 2

## GRM155C71A105KE11D
designator C?, comment 1 µF
CAP CER 1UF 10V X7S 0402; Part Number: GRM155C71A105KE11D; manufacturer: Murata Electronics; Tolerance: ±10%; Capacitance: 1 µF; Applications: General Purpose; componentlink1description: Datasheet; componentlink1url: https://search.murata.co.jp/Ceramy/image/img/A01X/G101/ENG/GRM155C71A105KE11-01.pdf; componentlink2description: DigiKey Link; componentlink2url: https://www.digikey.com/en/products/detail/murata-electronics/GRM155C71A105KE11D/6606086; Device Package: 0402 (1005 Metric); lastupdated: 23.07.2025 10:42:36; Lifecycle Status: Active; Minimum Order: 1; Mounting Type: Surface Mount, MLCC; Operating Temperature: -55°C ~ 125°C; Package / Case: 0402 (1005 Metric); packaging: TapeAndReel; partid: 1749; Part Status: Active; price: 0.01; series: GRM; Size / Dimension: 0.039" L x 0.020" W (1.00mm x 0.50mm); Supplier 1: DigiKey; Supplier Part Number 1: 490-14457-1-ND; Temperature Coefficient: X7S; Thickness (Max): 0.024" (0.60mm); value: 1 µF; Voltage - Rated: 10V
footprint MURATA GRM155 0402_1005
pins: 1, 2

## HDR2X5 MALE 2.54E (19MM)
designator J?, comment Pın Header10Pın(2x5) 2.54mm THT 180C Male H:23mm
HEADER MALE 2X5POS 2.54MM.PITCH 19MM.HEIGTH; Manufacturer: NA; Code: 3050223; Value: HDR2X5 MALE 2.54E (19MM); Family: HDR; Manufacturer Part Name: Pın Header10Pın(2x5) 2.54mm THT 180C Male H:23mm; Supplier: Piyasa; Supplier No: NA
footprint HDR2X5 M 2.54E 15MMH
pins: 1, 2, 3, 4, 5, 6, 7, 8, 9, 10

## Header 2
designator P?, comment 0022032021
CONN HEADER VERT 2POS 2.54MM; Manufacturer: Molex; Manufacturer Part Number: 0022032021; Supplier Part Number: WM4000-ND
signal-integrity model Connector
footprint THD 1x2p. male straight
pins: 1, 2

## Header 3
designator P?
Header, 3-Pin; LatestRevisionDate: 17-Jul-2002; LatestRevisionNote: Re-released for DXP Platform.; Publisher: Altium Limited
footprint HDR1X3 (Connector; Header; 3 Position)
signal-integrity model Connector
pins: 1, 2, 3

## Header 10H
designator P?, comment DI0_7
Header, 10-Pin, Right Angle; Supplier 1: OZDISAN; Supplier Part Number 1: LZIR-3.81-10POS
footprint MC 1,5/10-G-3,81
signal-integrity model Connector
pins: 1, 2, 3, 4, 5, 6, 7, 8, 9, 10

## HHXC500ARA101MJA0G
designator C?, comment 100 µF 50 V
100 µF 50 V Aluminum - Polymer Capacitors Radial, Can - SMD 25mOhm 4000 Hrs @ 125°C; Manufacturer_Name: Chemi-Con; Manufacturer_Part_Number: HHXC500ARA101MJA0G; Datasheet Link: https://www.mouser.com/datasheet/2/420/United-Chemi-Con-1100622.pdf; Height: 10.5mm; Mouser Part Number: 661-HHXC500A101MJA0G; Arrow Part Number: HHXC500ARA101MJA0G; Arrow Price/Stock: https://www.arrow.com/en/products/hhxc500ara101mja0g/united-chemi-con.html?utm_currency=USD&region=nac
footprint CAPAE1030X1050N
pins: 1 +, 2 -

## HTSW-106-07-L-S
designator J?
Connector Header Through Hole 6 position 0.100 (2.54mm); MF: Samtec; MP: HTSW-106-07-L-S; Package: None; Price: None; Check_prices: https://www.snapeda.com/parts/HTSW-106-07-L-S/Samtec/view-part/?ref=eda; Value: *; SnapEDA_Link: https://www.snapeda.com/parts/HTSW-106-07-L-S/Samtec/view-part/?ref=snap; Availability: In Stock; Purchase-URL: https://pricing.snapeda.com/search/part/HTSW-106-07-L-S/?ref=eda
footprint SAMTEC_HTSW-106-07-L-S
pins: 01 GND, 02 CTS, 03 VCC, 04 TXO, 05 RXI, 06 DTR

## HX1188NLT
designator X?
Telecom Transformer 1CT:1CT/1CT:1CT 1.5Ohm Prim. DCR 1.5Ohm Sec. DCR 16Term. Gull Wing SMD; Manufacturer_Name: Pulse; Geometry.Height: 6.07mm; Manufacturer Part Number: HX1188NLT; Mouser Part Number: 673-HX1188NLT; Mouser Price/Stock: https://www.mouser.co.uk/ProductDetail/Pulse-Electronics/HX1188NLT?qs=7h3O1UVlCGOyAkRk4EAe8A%3D%3D; Arrow Part Number: HX1188NLT; Arrow Price/Stock: https://www.arrow.com/en/products/hx1188nlt/pulse-electronics-corporation?region=europe; Datasheet Link: https://datasheet.datasheetarchive.com/originals/distributors/Datasheets-DGA2/221032.pdf
footprint HX1188NLT
pins: 1 TD+, 2 TCT, 3 TD-, 4 NC_1, 5 NC_2, 6 RD+, 7 RCT, 8 RD-, 9 RX-, 10 CMT_1, 11 RX+, 12 NC_3, 13 NC_4, 14 TX-, 15 CMT_2, 16 TX+

## I2C bus switch 8ch. PCA9548A
designator U?, comment PCA9548A
8ch. I2C switch; Manufacturer: NXP; Manufacturer Part Number: PCA9548APW; Position: U?; Value: PCA9548A; Supplier Part Number: 568-10297-1-ND
footprint TSSOP-24 (PCA9548A  : Approve NO)
pins: 1 A0, 2 A1, 3 ~{RESET}, 4 SD0, 5 SC0, 6 SD1, 7 SC1, 8 SD2, 9 SC2, 10 SD3, 11 SC3, 12 VSS (power), 13 SD4, 14 SC4, 15 SD5, 16 SC5, 17 SD6, 18 SC6, 19 SD7, 20 SC7, 21 A2, 22 SCL, 23 SDA, 24 VDD (power)

## ICS-43434
designator MK?
60 Hz ~ 20 kHz Digital, IÂ²S Microphone MEMS (Silicon) 1.65 V ~ 3.63 V Omnidirectional (-26 Â±1dB @ 94dB SPL) Solder Pads; MF: TDK InvenSense; Price: None; MP: ICS-43434; SnapEDA_Link: https://www.snapeda.com/parts/ICS-43434/TDK+InvenSense/view-part/?ref=snap; Package: Custom Package TDK InvenSense; Availability: In Stock; Check_prices: https://www.snapeda.com/parts/ICS-43434/TDK+InvenSense/view-part/?ref=eda; Purchase-URL: https://pricing.snapeda.com/search/part/ICS-43434/?ref=eda; Value: *
footprint MIC_ICS-43434
pins: 1 WS (in), 2 LR (in), 3 GND (power), 4 SCK (in), 5 VDD (power), 6 SD (out)

## ICS-43434_1
designator MK?, comment ICS-43434
60 Hz ~ 20 kHz Digital, IÂ²S Microphone MEMS (Silicon) 1.65 V ~ 3.63 V Omnidirectional (-26 Â±1dB @ 94dB SPL) Solder Pads; MF: TDK InvenSense; Price: None; MP: ICS-43434; SnapEDA_Link: https://www.snapeda.com/parts/ICS-43434/TDK+InvenSense/view-part/?ref=snap; Package: Custom Package TDK InvenSense; Availability: In Stock; Check_prices: https://www.snapeda.com/parts/ICS-43434/TDK+InvenSense/view-part/?ref=eda; Purchase-URL: https://pricing.snapeda.com/search/part/ICS-43434/?ref=eda; Value: *
footprint MIC_ICS-43434
pins: 1 WS (in), 2 LR (in), 3 GND (power), 4 SCK (in), 5 VDD (power), 6 SD (out)

## IHLP2525CZER8R2M01
designator L?, comment value 8.2uH  (hidden comment: FIXED IND 8.2UH 4A 68 MOHM SMD)
8.2 µH Shielded Molded Inductor 4 A 68mOhm Max Nonstandard; Manufacturer Part Number: IHLP2525CZER8R2M01; Order Code: Digi: 541-1012-2-ND; LCSC Manufacturer Part Number: IHLP2525CZER8R2M01; LCSC Part Number: C506576
footprint Vishay_IHLP-2525CZ-FP_2_413x3_429-3D_3_0_MFG
pins: 1, 2

## IHLP2525CZER8R2M01_1
designator L?, comment value 8.2uH  (hidden comment: FIXED IND 8.2UH 4A 68 MOHM SMD)
8.2 µH Shielded Molded Inductor 4 A 68mOhm Max Nonstandard; Manufacturer Part Number: IHLP2525CZER8R2M01; Order Code: Digi: 541-1012-2-ND; LCSC Manufacturer Part Number: IHLP2525CZER8R2M01; LCSC Part Number: C506576
footprint Vishay_IHLP-2525CZ-FP_2_413x3_429-3D_3_0_MFG
pins: 1, 2

## IHLP3232DZER8R2M11
designator L?  (value not drawn)
Manufacturer Part Number: IHLP3232DZER8R2M11
footprint Vishay_IHLP-3232DZ-FP_2_413x5_334-3D_4_0_MFG
pins: 1, 2

## IHLP3232DZER8R2M11_1
designator L?, comment IHLP3232DZER8R2M11  (value not drawn)
footprint Vishay_IHLP-3232DZ-FP_2_413x5_334-3D_4_0_MFG
pins: 1, 2

## IHLP3232DZER8R2M11_2
designator L?, comment IHLP3232DZER8R2M11  (value not drawn)
footprint Vishay_IHLP-3232DZ-FP_2_413x5_334-3D_4_0_MFG
pins: 1, 2

## IHLP3232DZER8R2M11_3
designator L?, comment IHLP3232DZER8R2M11  (value not drawn)
footprint Vishay_IHLP-3232DZ-FP_2_413x5_334-3D_4_0_MFG
pins: 1, 2

## IHLP3232DZER8R2M11_4
designator L?, comment IHLP3232DZER8R2M11  (value not drawn)
footprint Vishay_IHLP-3232DZ-FP_2_413x5_334-3D_4_0_MFG
pins: 1, 2

## IHLP3232DZER150M11
designator L?, comment value 15uH  (hidden comment: 15 µH Shielded Molded Inductor 4.9 A 65.3mOhm Max Nonstandard)
Manufacturer Part Number: IHLP3232DZER150M11; Order Code: Digi: 541-1347-2-ND; LCSC Manufacturer Part Number: IHLP3232DZER150M11; LCSC Part Number: C845050
footprint Vishay_IHLP-3232DZ-FP_2_413x5_334-3D_4_0_MFG
pins: 1, 2

## IHLP3232DZER150M11_1
designator L?, comment value 15uH  (hidden comment: 15 µH Shielded Molded Inductor 4.9 A 65.3mOhm Max Nonstandard)
Manufacturer Part Number: IHLP3232DZER150M11; Order Code: Digi: 541-1347-2-ND; LCSC Manufacturer Part Number: IHLP3232DZER150M11; LCSC Part Number: C845050
footprint Vishay_IHLP-3232DZ-FP_2_413x5_334-3D_4_0_MFG
pins: 1, 2

## IHLP3232DZER330M11
designator L?
Manufacturer_Name: Vishay; Datasheet Link: http://www.vishay.com/docs/34313/ihlp3232dz11.pdf; Height: 4mm; Manufacturer_Part_Number: IHLP3232DZER330M11; Mouser Part Number: 70-IHLP3232DZER330M1; Mouser Price/Stock: https://www.mouser.co.uk/ProductDetail/Vishay-Dale/IHLP3232DZER330M11?qs=Nbmv7C3%2FzlCWG7z%252BjqZ9qQ%3D%3D; Arrow Part Number: IHLP3232DZER330M11; Arrow Price/Stock: https://www.arrow.com/en/products/ihlp3232dzer330m11/vishay?region=nac
footprint IHLP3232DZER330M11
pins: 1 (io), 2 (io)

## IHLP3232DZER330M11_1
designator L?, comment IHLP3232DZER330M11
Manufacturer_Name: Vishay; Datasheet Link: http://www.vishay.com/docs/34313/ihlp3232dz11.pdf; Height: 4mm; Manufacturer_Part_Number: IHLP3232DZER330M11; Mouser Part Number: 70-IHLP3232DZER330M1; Mouser Price/Stock: https://www.mouser.co.uk/ProductDetail/Vishay-Dale/IHLP3232DZER330M11?qs=Nbmv7C3%2FzlCWG7z%252BjqZ9qQ%3D%3D; Arrow Part Number: IHLP3232DZER330M11; Arrow Price/Stock: https://www.arrow.com/en/products/ihlp3232dzer330m11/vishay?region=nac
footprint IHLP3232DZER330M11
pins: 1 (io), 2 (io)

## IHLP3232DZER330M11_2
designator L?, comment IHLP3232DZER330M11
Manufacturer_Name: Vishay; Datasheet Link: http://www.vishay.com/docs/34313/ihlp3232dz11.pdf; Height: 4mm; Manufacturer_Part_Number: IHLP3232DZER330M11; Mouser Part Number: 70-IHLP3232DZER330M1; Mouser Price/Stock: https://www.mouser.co.uk/ProductDetail/Vishay-Dale/IHLP3232DZER330M11?qs=Nbmv7C3%2FzlCWG7z%252BjqZ9qQ%3D%3D; Arrow Part Number: IHLP3232DZER330M11; Arrow Price/Stock: https://www.arrow.com/en/products/ihlp3232dzer330m11/vishay?region=nac
footprint IHLP3232DZER330M11
pins: 1 (io), 2 (io)

## IHLP3232DZER330M11_3
designator L?, comment IHLP3232DZER330M11
Manufacturer_Name: Vishay; Datasheet Link: http://www.vishay.com/docs/34313/ihlp3232dz11.pdf; Height: 4mm; Manufacturer_Part_Number: IHLP3232DZER330M11; Mouser Part Number: 70-IHLP3232DZER330M1; Mouser Price/Stock: https://www.mouser.co.uk/ProductDetail/Vishay-Dale/IHLP3232DZER330M11?qs=Nbmv7C3%2FzlCWG7z%252BjqZ9qQ%3D%3D; Arrow Part Number: IHLP3232DZER330M11; Arrow Price/Stock: https://www.arrow.com/en/products/ihlp3232dzer330m11/vishay?region=nac
footprint IHLP3232DZER330M11
pins: 1 (io), 2 (io)

## INA232AIDDFR
designator U?, comment Manufacturer Part Number: INA232AIDDFR  (hidden comment: 48-V, 16-BIT HIGH-PRECISION IC O)
Current Monitor Regulator High/Low-Side TSOT-23-8; Order Code: Digi: 296-INA232AIDDFRTR-ND; LCSC Manufacturer Part Number: *; LCSC Part Number: *
footprint SOT23-8
pins: 1 IN+, 2 IN-, 3 GND, 4 VDD, 5 SCL, 6 SDA, 7 A0, 8 ALERT

## INA232AIDDFR_1
designator U?, comment Manufacturer Part Number: INA232AIDDFR  (hidden comment: 48-V, 16-BIT HIGH-PRECISION IC O)
Current Monitor Regulator High/Low-Side TSOT-23-8; Order Code: Digi: 296-INA232AIDDFRTR-ND; LCSC Manufacturer Part Number: *; LCSC Part Number: *
footprint SOT23-8
pins: 1 IN+, 2 IN-, 3 GND, 4 VDD, 5 SCL, 6 SDA, 7 A0, 8 ALERT

## INA232BIDDFR
designator B?
48-V, 16-bit high-precision I²C output digital power monitor with alert 8-SOT-23-THIN -40 to 125; Manufacturer: Texas Instruments; Manufacturer Part Number: INA232BIDDFR; Supplier 1: Digikey; RoHS: No; Stock 1: 8755; Pricing 1: 1=2.5, 10=2.248, 25=2.1208, 100=1.8071, 250=1.6968, 500=1.4847, 1000=1.23018 (USD); Supplier Part Number 1: 296-INA232BIDDFRCT-ND
footprint SOT65P280X110-8N
pins: 1 IN+, 2 IN-, 3 GND, 4 VS, 5 SCL, 6 SDA, 7 A0, 8 ALERT

## IND1025
designator FB?, comment value 220R  (hidden comment: Ferrite Bead)
FERRITE BEAD 220 OHM 0603 1LN; Manufacturer: Murata; Manufacturer Part Number: BLM18AG221SN1D; Revision: 1; Supplier Part Number: 490-1012-1-ND
footprint 0603_L (R0603)
pins: 1, 2
2 alternate drawings of the same symbol

## IND1025_1
designator FB?, comment value 220R  (hidden comment: Ferrite Bead)
FERRITE BEAD 220 OHM 0603 1LN; Manufacturer: Murata; Manufacturer Part Number: BLM18AG221SN1D; Revision: 1; Supplier Part Number: 490-1012-1-ND
footprint 0603_L (R0603)
pins: 1, 2
2 alternate drawings of the same symbol

## IND1123
designator FB?, comment 2A
FERRITE BEAD 100 OHM 0603 1LN; Manufacturer: TDK; Manufacturer Part Number: MPZ1608Y101BTA00; Tolerance: 25%; Impedance: 100R; DC Resistance (DCR): 40mR; ComponentLink1URL: https://chn-vm-apps.microchip.com/mchprepo/parts/Datasheets/beads_commercial_power_mpz_en.pdf; ComponentLink1Description: Datasheet; Supplier 1: Digi-Key; Supplier Part Number 1: 445-2984-1-ND; RoHS: Yes; Category: Ferrite Beads and Chips; Stock 1: 551; Pricing 1: 1=0,10000, 10=0,07200, 25=0,06480, 50=0,05840, 100=0,04290, 250=0,03120, 500=0,02860, 1000=0,02470 (USD); Mount: Surface Mount; Case/Package: 0603; Case Code (Metric): 1608; Case Code (Imperial): 0603; Core Material: Ferrite; Packaging: Tape and Reel; Package Quantity: 4000; Max DC Current: 2A; Current Rating: 2A; Series: MPZ; Length: 0.063inch; Width: 0.031inch; Height: 0.037inch; RoHS Compliant: Yes; REACH SVHC: No SVHC; ComponentLink2URL: https://datasheet.ciiva.com/46634/beads-commercial-power-mpz-en-46634677.pdf?src-supplier=Digi-Key; ComponentLink2Description: https://datasheet.ciiva.com/46634/beads-commercial-power-mpz-en-46634677.pdf?src-supplier=Digi-Key; ComponentLink3URL: https://datasheet.ciiva.com/48682/beads-commercial-power-mpz-en-48682501.pdf?src-supplier=Avnet; ComponentLink3Description: https://datasheet.ciiva.com/48682/beads-commercial-power-mpz-en-48682501.pdf?src-supplier=Avnet; ComponentLink4URL: https://datasheet.ciiva.com/46634/beads-commercial-power-mpz-en-46634684.pdf?src-supplier=Digi-Key; ComponentLink4Description: https://datasheet.ciiva.com/46634/beads-commercial-power-mpz-en-46634684.pdf?src-supplier=Digi-Key; ComponentLink5URL: https://datasheet.ciiva.com/46634/beads-commercial-power-mpz-en-46634621.pdf?src-supplier=Digi-Key; ComponentLink5Description: https://datasheet.ciiva.com/46634/beads-commercial-power-mpz-en-46634621.pdf?src-supplier=Digi-Key
footprint IND_C_0603 (Chip Inductor 2-Leads, Body 1.6x0.8mm, IPC Medium Density)
pins: 1 S, 2 F
2 alternate drawings of the same symbol

## IND1123_1
designator FB?, comment Current Rating: 2A  (hidden comment: Inductor)
FERRITE BEAD 100 OHM 0603 1LN; Manufacturer: TDK; Manufacturer Part Number: MPZ1608Y101BTA00; Tolerance: 25%; Impedance: 100R; DC Resistance (DCR): 40mR; ComponentLink1URL: https://chn-vm-apps.microchip.com/mchprepo/parts/Datasheets/beads_commercial_power_mpz_en.pdf; ComponentLink1Description: Datasheet; Supplier 1: Digi-Key; Supplier Part Number 1: 445-2984-1-ND; RoHS: Yes; Category: Ferrite Beads and Chips; Stock 1: 551; Pricing 1: 1=0,10000, 10=0,07200, 25=0,06480, 50=0,05840, 100=0,04290, 250=0,03120, 500=0,02860, 1000=0,02470 (USD); Mount: Surface Mount; Case/Package: 0603; Core Material: Ferrite; Case Code (Metric): 1608; Case Code (Imperial): 0603; Packaging: Tape and Reel; Package Quantity: 4000; Max DC Current: 2A; Series: MPZ; Length: 0.063inch; Width: 0.031inch; Height: 0.037inch; REACH SVHC: No SVHC; RoHS Compliant: Yes; ComponentLink2URL: https://datasheet.ciiva.com/46634/beads-commercial-power-mpz-en-46634677.pdf?src-supplier=Digi-Key; ComponentLink2Description: https://datasheet.ciiva.com/46634/beads-commercial-power-mpz-en-46634677.pdf?src-supplier=Digi-Key; ComponentLink3URL: https://datasheet.ciiva.com/48682/beads-commercial-power-mpz-en-48682501.pdf?src-supplier=Avnet; ComponentLink3Description: https://datasheet.ciiva.com/48682/beads-commercial-power-mpz-en-48682501.pdf?src-supplier=Avnet; ComponentLink4URL: https://datasheet.ciiva.com/46634/beads-commercial-power-mpz-en-46634684.pdf?src-supplier=Digi-Key; ComponentLink4Description: https://datasheet.ciiva.com/46634/beads-commercial-power-mpz-en-46634684.pdf?src-supplier=Digi-Key; ComponentLink5URL: https://datasheet.ciiva.com/46634/beads-commercial-power-mpz-en-46634621.pdf?src-supplier=Digi-Key; ComponentLink5Description: https://datasheet.ciiva.com/46634/beads-commercial-power-mpz-en-46634621.pdf?src-supplier=Digi-Key
footprint IND_C_0603 (Chip Inductor 2-Leads, Body 1.6x0.8mm, IPC Medium Density)
pins: 1 S, 2 F
2 alternate drawings of the same symbol